# Altium footprint library 150uF Capacitor.PcbLib: 1 footprints
Each footprint in its own frame and in the unit in brackets; x right, y up, seen from the top. Pads: shape width x height; smd on the part's side, far side on the other; paste and mask are expansions set on the pad; w line width, h text height; cw(c..) or ccw(c..) is an arc to the next point about the centre after c.
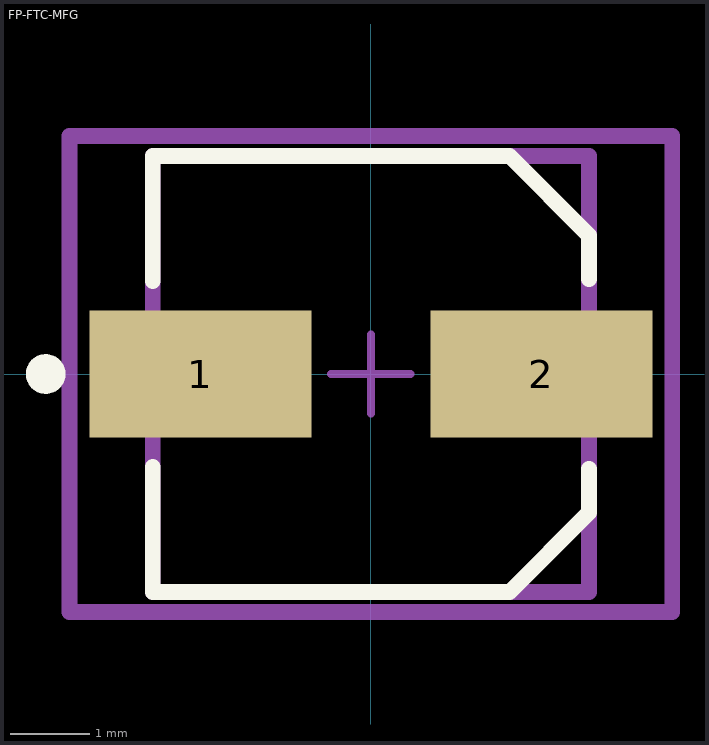
[diagram p0: the footprint, top view; thin cyan lines are the x and y axes]

## FP-FTC-MFG [mm]
pads (2):
  rect 2.8x1.6 smd paste+0 mask+0: 1(-2.15,0) 2(2.15,0)
Top Overlay:
  circle w0.25: c-4.1,0 r0.125
  lines w0.2: -2.75,-1.175 -2.75,-2.75 1.75,-2.75 2.75,-1.75 2.75,-1.2 ; -2.75,1.175 -2.75,2.75 1.75,2.75 2.75,1.75 2.75,1.2
Top Assembly:
  lines w0.2: -3.8,-3 -3.8,3 3.8,3 3.8,-3 -3.8,-3
  text ".Designator" at 0,0.189 h1
Top 3D Body:
  lines w0.2: -2.75,-2.75 -2.75,2.75 2.75,2.75 2.75,-2.75 -2.75,-2.75
Top Courtyard:
  lines w0.2: -3.8,-3 -3.8,3 3.8,3 3.8,-3 -3.8,-3
Top Component Center:
  lines w0.1: -0.5,0 0.5,0 ; 0,-0.5 0,0.5
3D body "Cap_Panasonic_EEEFT1A151AR_eec.STEP": height 0.25, standoff 0, extent -3.8,-3 3.8,3